# EAGLE library part AD5933YRSZ (library eric-custom)
1 MSPS, 12-Bit Impedance Converter, Network Analyzer
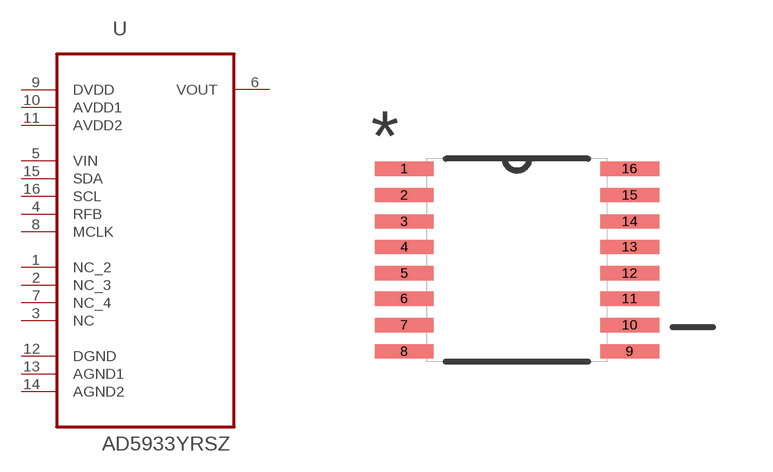
[diagram p16: symbol with the pads of SOP65P640X120-16N; footprint SOP65P640X120-16N]

Designator prefix U

## AD5933YRSZ (MPN: AD5933YRSZ; OC_FARNELL: 1438950; OC_NEWARK: 06M5088; PACKAGE: TSSOP-16; SUPPLIER: Analog Devices)  [SOP65P640X120-16N]
1  NC_2  nc
2  NC_3  nc
3  NC  nc
4  RFB  in
5  VIN  in
6  VOUT  out
7  NC_4  nc
8  MCLK  in
9  DVDD  pwr
10  AVDD1  pwr
11  AVDD2  pwr
12  DGND  pas
13  AGND1  pas
14  AGND2  pas
15  SDA
16  SCL  in

## Footprint SOP65P640X120-16N (pad centres in mm)
smd 1.473 x 0.356: 1 -2.819,2.286; 2 -2.819,1.626; 3 -2.819,0.965; 4 -2.819,0.33; 5 -2.819,-0.33; 6 -2.819,-0.965; 7 -2.819,-1.626; 8 -2.819,-2.286; 9 2.819,-2.286; 10 2.819,-1.626; 11 2.819,-0.965; 12 2.819,-0.33; 13 2.819,0.33; 14 2.819,0.965; 15 2.819,1.626; 16 2.819,2.286